# EAGLE library part MCP3008 (library DAC)
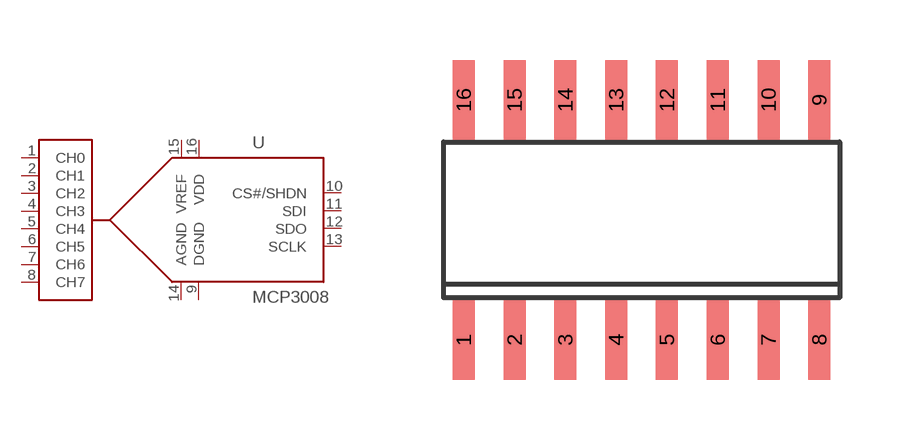
[diagram p29: symbol with the pads of MICRO-SL16; footprint MICRO-SL16]

Designator prefix U

## MCP3008  [MICRO-SL16]
1  CH0  in
2  CH1  in
3  CH2  in
4  CH3  in
5  CH4  in
6  CH5  in
7  CH6  in
8  CH7  in
9  DGND  pwr
10  CS#/SHDN  in
11  SDI  in
12  SDO  out
13  SCLK  in
14  AGND  pwr
15  VREF  pwr
16  VDD  pwr

## Footprint MICRO-SL16 (pad centres in mm)
smd 0.55 x 2: 1 -4.445,-3.005; 2 -3.175,-3; 3 -1.905,-3; 4 -0.635,-3; 5 0.635,-3; 6 1.905,-3; 7 3.175,-3; 8 4.445,-3; 9 4.445,3; 10 3.175,3; 11 1.905,3; 12 0.635,3; 13 -0.635,3; 14 -1.905,3; 15 -3.175,3; 16 -4.445,3